# EAGLE library part BUTTONPAD-2X2-LED (library SparkFun-Switches)
2x2 Button Pad w/ Single LEDs Layout and schematic for 2x2 button pad with single-color LEDs under each button. For use with the Button Pad 2x2 - LED Compatible <https://www.sparkfun.com/products/7836> and Button Pad 2x2 Top Bezel <https://www.sparkfun.com/products/8746>. Any single-color 5mm LED <https://www.sparkfun.com/categories/172> should be compatible. SparkFun Products SparkFun Simon Says - Through-Hole Soldering Kit <https://www.sparkfun.com/products/10547> (KIT-10547) Button Pad 2x2 - Breakout PCB <https://www.sparkfun.com/products/9277> (COM-09277)
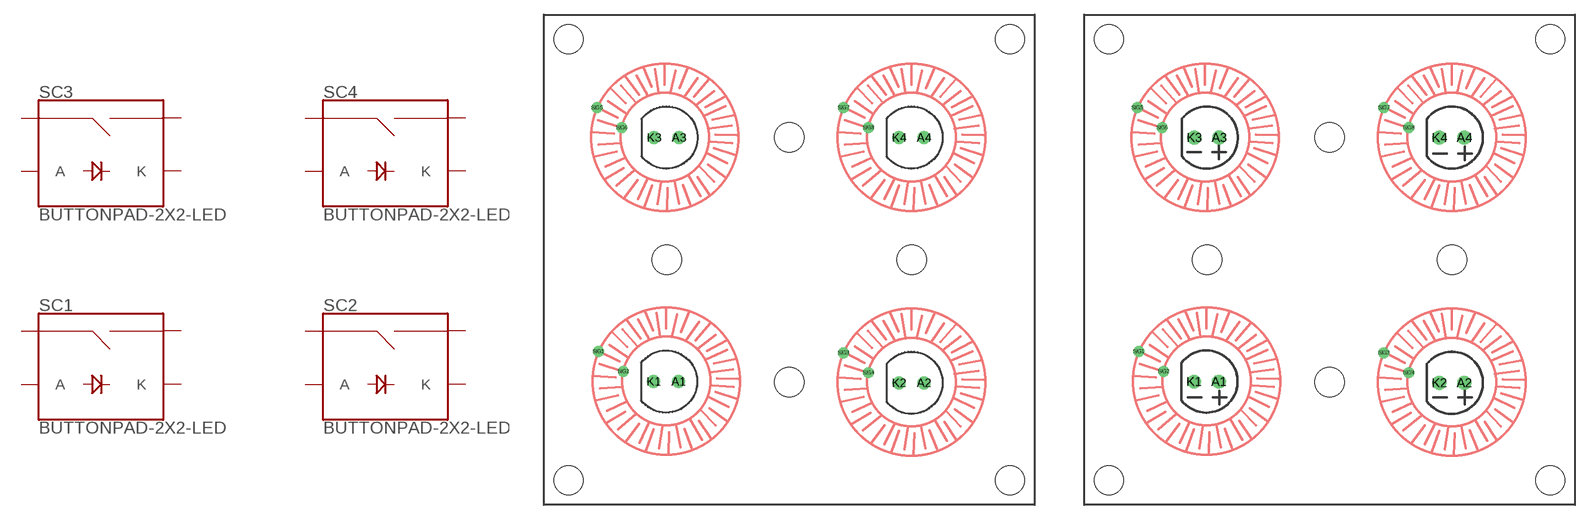
[diagram p1: symbol with the pads of BUTTONPAD-2X2-SINGLE-LED; footprints BUTTONPAD-2X2-SINGLE-LED, BUTTONPAD-2X2-SINGLE-LED-KIT]

Designator prefix S; gates C1=BUTTONPAD-LED C2=BUTTONPAD-LED C3=BUTTONPAD-LED C4=BUTTONPAD-LED

## BUTTONPAD-2X2-LED (PROD_ID: COMP-08481; SF_SKU: COM-07836)  [BUTTONPAD-2X2-SINGLE-LED]
A1  C1:A
A2  C2:A
A3  C3:A
A4  C4:A
K1  C1:K
K2  C2:K
K3  C3:K
K4  C4:K
SIG1  C1:SIG1
SIG2  C1:SIG2
SIG3  C2:SIG1
SIG4  C2:SIG2
SIG5  C3:SIG1
SIG6  C3:SIG2
SIG7  C4:SIG1
SIG8  C4:SIG2

## BUTTONPAD-2X2-LEDKIT (PROD_ID: COMP-08481; SF_SKU: COM-07836)  [BUTTONPAD-2X2-SINGLE-LED-KIT]
Pads as for BUTTONPAD-2X2-SINGLE-LED

## Footprint BUTTONPAD-2X2-SINGLE-LED (pad centres in mm)
2x2 Button Pad w/ Single LEDs Layout and schematic for 2x2 button pad with single-color LEDs under each button. For use with the Button Pad 2x2 - LED Compatible <https://www.sparkfun.com/products/7836> and Button Pad 2x2 Top Bezel <https://www.sparkfun.com/products/8746>. Any single-color 5mm LED <https://www.sparkfun.com/categories/172> should be compatible.
drill 0.813: A1 13.716,12.573; A2 38.735,12.446; A3 13.75,37.47; A4 38.735,37.465; K1 11.176,12.573; K2 36.195,12.446; K3 11.21,37.47; K4 36.195,37.465
drill 0.6: SIG1 5.542,15.64; SIG2 8.082,13.608; SIG3 30.542,15.513; SIG4 33.082,13.481; SIG5 5.388,40.513; SIG6 7.928,38.481; SIG7 30.542,40.513; SIG8 33.082,38.481
hole 3 at 12.5,25
hole 3 at 25,37.5
hole 3 at 37.5,25
hole 3 at 25,12.5
hole 3 at 2.5,2.5
hole 3 at 2.5,47.5
hole 3 at 47.5,47.5
hole 3 at 47.5,2.5

## Footprint BUTTONPAD-2X2-SINGLE-LED-KIT (pad centres in mm)
2x2 Button Pad w/ Single LEDs Layout and schematic for 2x2 button pad with single-color LEDs under each button. For use with the Button Pad 2x2 - LED Compatible <https://www.sparkfun.com/products/7836> and Button Pad 2x2 Top Bezel <https://www.sparkfun.com/products/8746>. Any single-color 5mm LED <https://www.sparkfun.com/categories/172> should be compatible. Warning: This is the KIT version of this package. This package has a smaller diameter top stop mask, which doesn't cover the diameter of the pad. This means only the bottom side of the pads' copper will be exposed. You'll only be able to solder to the bottom side.
drill 0.889 pad 1.016: A1 13.716,12.573; A2 38.735,12.446; A3 13.75,37.47; A4 38.735,37.465; K1 11.176,12.573; K2 36.195,12.446; K3 11.21,37.47; K4 36.195,37.465
drill 0.6: SIG1 5.542,15.64; SIG2 8.082,13.608; SIG3 30.542,15.513; SIG4 33.082,13.481; SIG5 5.388,40.513; SIG6 7.928,38.481; SIG7 30.542,40.513; SIG8 33.082,38.481
hole 3 at 12.5,25
hole 3 at 25,37.5
hole 3 at 37.5,25
hole 3 at 25,12.5
hole 3 at 2.5,2.5
hole 3 at 2.5,47.5
hole 3 at 47.5,47.5
hole 3 at 47.5,2.5